# EAGLE library part MTA-050-6 (library MtMM)
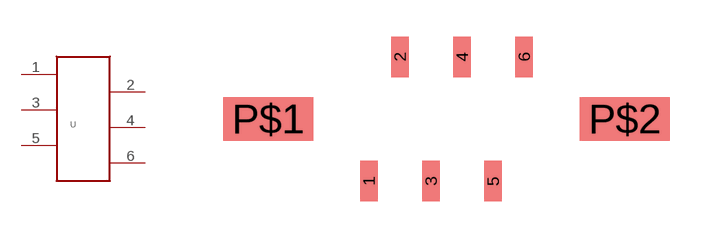
[diagram p1: symbol with the pads of MTA-050-6; footprint MTA-050-6]

Designator prefix -

## MTA-050-6  [MTA-050-6]
1  P$1
2  P$2
3  P$3
4  P$4
5  P$5
6  P$6

## Footprint MTA-050-6 (pad centres in mm)
smd 0.711 x 1.651: 1 -2.54,-2.54; 2 -1.27,2.54; 3 0,-2.54; 4 1.27,2.54; 5 2.54,-2.54; 6 3.81,2.54
smd 3.683 x 1.778: P$1 -6.655,0; P$2 7.925,0